# EAGLE library part APA102C (library wedfestdress)
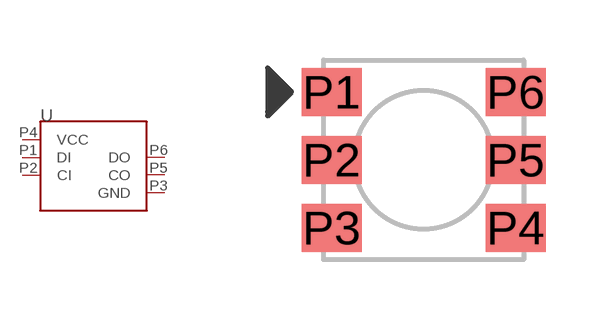
[diagram p1: symbol with the pads of APA102C; footprint APA102C]

Designator prefix U

## APA102C (COST_X1: .23; COST_X100: .23; COST_X500: .23; DESCRIPTION: RGB LED, daisy-chainable, SPI-compatible, 5050 case size; DISTRIBUTOR: Amazon; DIST_PART_NO: B01MG4TG58; MFG: iPixel; MFG_PART_NO: APA102C; PACKAGE: 5050)  [APA102C]
P1  DI
P2  CI
P3  GND
P4  VCC
P5  CO
P6  DO

## Footprint APA102C (pad centres in mm)
smd 1.5 x 1.2: P1 -2.3,1.7; P2 -2.3,0; P3 -2.3,-1.7; P4 2.3,-1.7; P5 2.3,0; P6 2.3,1.7